# EAGLE library part PCI9056 (library plxtech)
PCI 9056 PCI Bus Mastering I/O Accelerator between a 32-bit, 66 MHz PCI Bus and 32-bit, 66 MHz processor Local Bus Data Book Version 0.91b February 2002 Website: http://www.plxtech.com
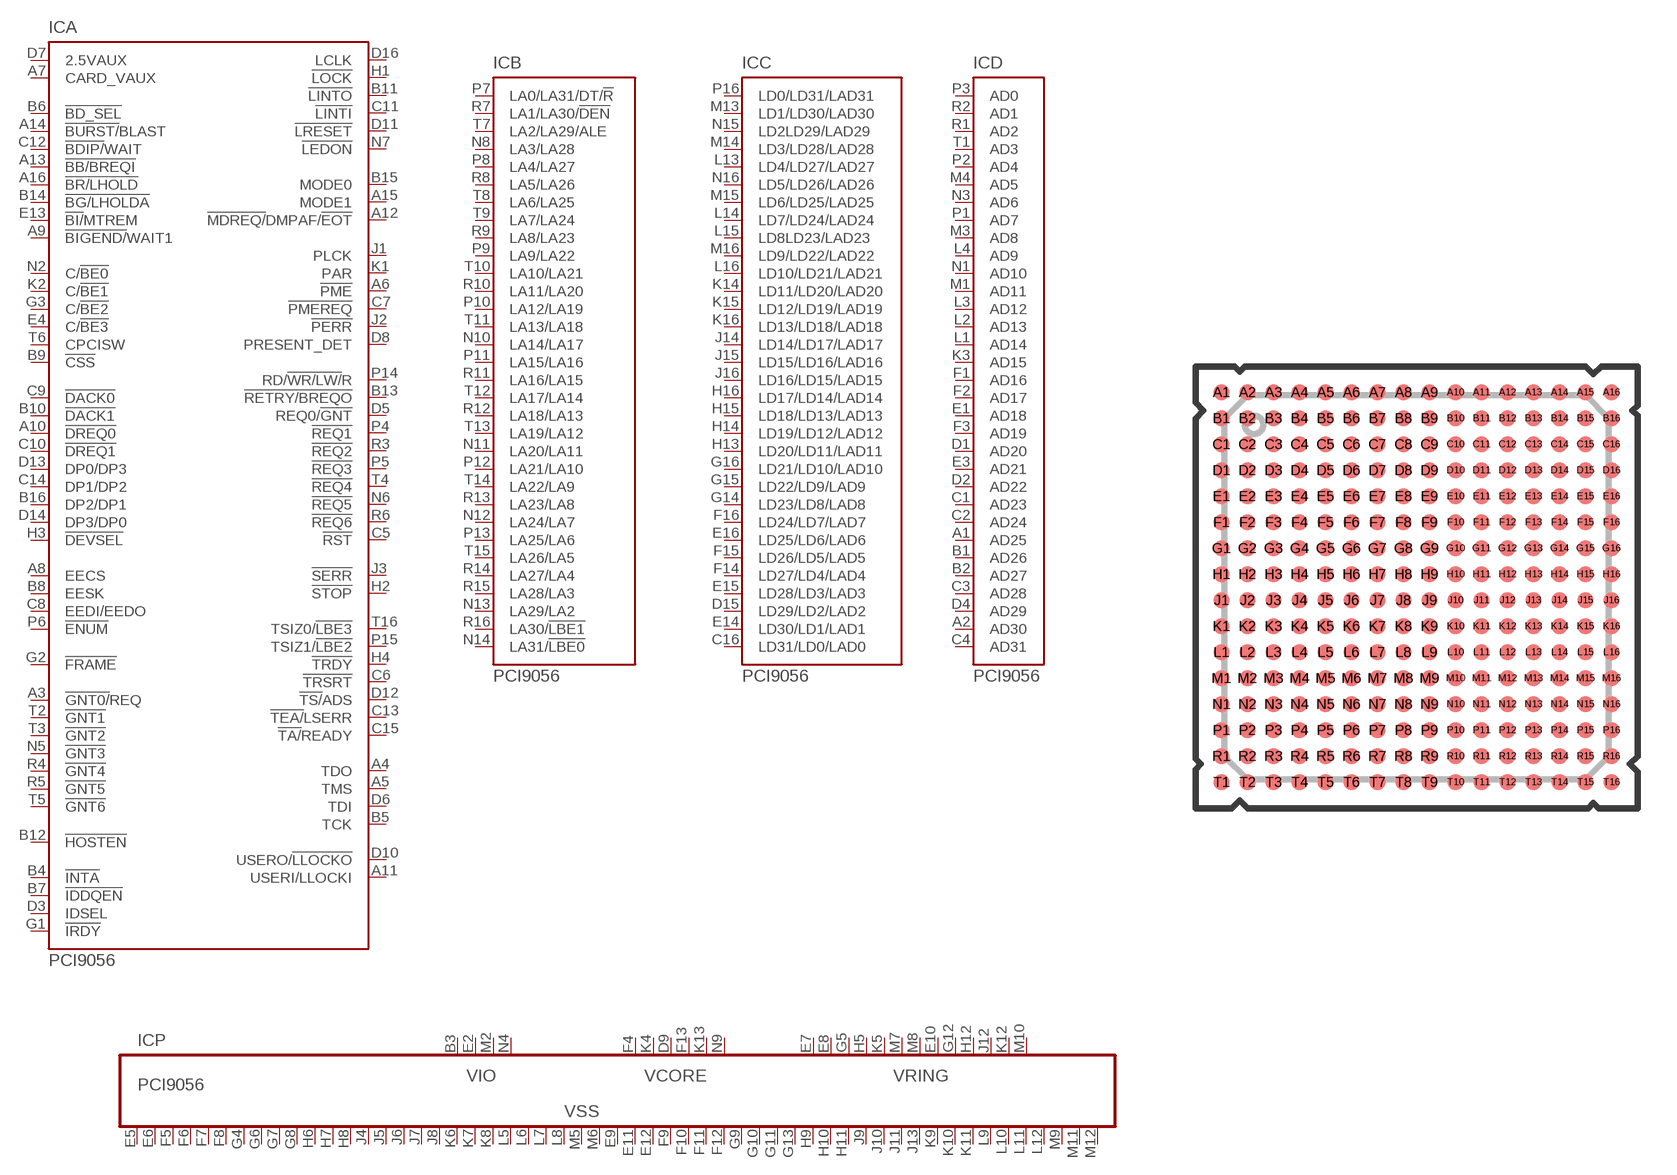
[diagram p0: symbol with the pads of PBGA256; footprint PBGA256]

Designator prefix IC; gates A=PCI9056 B=PCI-LA C=PCI-LD D=PCI-AD P=PWR-PCI9056

## PCI9056 (OC_FARNELL: 1623124; OC_NEWARK: unknown)  [PBGA256]
A1  D:AD25
A2  D:AD30
A3  A:!GNT0/!REQ  out
A4  A:TDO
A5  A:TMS  in
A6  A:!PME
A7  A:CARD_VAUX  pwr
A8  A:EECS  out
A9  A:!BIGEND/!WAIT1
A10  A:!DREQ0  in
A11  A:USERI/LLOCKI  in
A12  A:!MDREQ/!DMPAF/!EOT
A13  A:!BB/BREQI  in
A14  A:!BURST/!BLAST
A15  A:MODE1  in
A16  A:!BR/LHOLD  out
B1  D:AD26
B2  D:AD27
B3  P:VIO  pwr
B4  A:!INTA
B5  A:TCK  in
B6  A:!BD_SEL  in
B7  A:!IDDQEN  in
B8  A:EESK  out
B9  A:!CSS  in
B10  A:!DACK1  out
B11  A:!LINTO  out
B12  A:!HOSTEN  in
B13  A:!RETRY/BREQO  out
B14  A:!BG/LHOLDA  in
B15  A:MODE0  in
B16  A:DP2/DP1
C1  D:AD23
C2  D:AD24
C3  D:AD28
C4  D:AD31
C5  A:!RST
C6  A:!TRSRT  in
C7  A:!PMEREQ  in
C8  A:EEDI/EEDO
C9  A:!DACK0  out
C10  A:!DREQ1  in
C11  A:!LINTI  in
C12  A:!BDIP/!WAIT
C13  A:!TEA/!LSERR
C14  A:DP1/DP2
C15  A:!TA/!READY
C16  C:LD31/LD0/LAD0  in
D1  D:AD20
D2  D:AD22
D3  A:IDSEL  in
D4  D:AD29
D5  A:REQ0/!GNT  in
D6  A:TDI  in
D7  A:2.5VAUX  pwr
D8  A:PRESENT_DET  in
D9  P:VCORE  pwr
D10  A:USERO/!LLOCKO
D11  A:!LRESET
D12  A:!TS/!ADS
D13  A:DP0/DP3
D14  A:DP3/DP0
D15  C:LD29/LD2/LAD2  in
D16  A:LCLK  in
E1  D:AD18
E2  P:VIO  pwr
E3  D:AD21
E4  A:C/!BE3
E5  P:VSS  pwr
E6  P:VSS  pwr
E7  P:VRING  pwr
E8  P:VRING  pwr
E9  P:VSS  pwr
E10  P:VRING  pwr
E11  P:VSS  pwr
E12  P:VSS  pwr
E13  A:!BI/!MTREM  in
E14  C:LD30/LD1/LAD1  in
E15  C:LD28/LD3/LAD3  in
E16  C:LD25/LD6/LAD6  in
F1  D:AD16
F2  D:AD17
F3  D:AD19
F4  P:VCORE  pwr
F5  P:VSS  pwr
F6  P:VSS  pwr
F7  P:VSS  pwr
F8  P:VSS  pwr
F9  P:VSS  pwr
F10  P:VSS  pwr
F11  P:VSS  pwr
F12  P:VSS  pwr
F13  P:VCORE  pwr
F14  C:LD27/LD4/LAD4  in
F15  C:LD26/LD5/LAD5  in
F16  C:LD24/LD7/LAD7  in
G1  A:!IRDY
G2  A:!FRAME
G3  A:C/!BE2
G4  P:VSS  pwr
G5  P:VRING  pwr
G6  P:VSS  pwr
G7  P:VSS  pwr
G8  P:VSS  pwr
G9  P:VSS  pwr
G10  P:VSS  pwr
G11  P:VSS  pwr
G12  P:VRING  pwr
G13  P:VSS  pwr
G14  C:LD23/LD8/LAD8  in
G15  C:LD22/LD9/LAD9  in
G16  C:LD21/LD10/LAD10  in
H1  A:!LOCK
H2  A:!STOP
H3  A:!DEVSEL
H4  A:!TRDY
H5  P:VRING  pwr
H6  P:VSS  pwr
H7  P:VSS  pwr
H8  P:VSS  pwr
H9  P:VSS  pwr
H10  P:VSS  pwr
H11  P:VSS  pwr
H12  P:VRING  pwr
H13  C:LD20/LD11/LAD11  in
H14  C:LD19/LD12/LAD12  in
H15  C:LD18/LD13/LAD13  in
H16  C:LD17/LD14/LAD14  in
J1  A:PLCK  in
J2  A:!PERR
J3  A:!SERR
J4  P:VSS  pwr
J5  P:VSS  pwr
J6  P:VSS  pwr
J7  P:VSS  pwr
J8  P:VSS  pwr
J9  P:VSS  pwr
J10  P:VSS  pwr
J11  P:VSS  pwr
J12  P:VRING  pwr
J13  P:VSS  pwr
J14  C:LD14/LD17/LAD17  in
J15  C:LD15/LD16/LAD16  in
J16  C:LD16/LD15/LAD15  in
K1  A:PAR
K2  A:C/!BE1
K3  D:AD15
K4  P:VCORE  pwr
K5  P:VRING  pwr
K6  P:VSS  pwr
K7  P:VSS  pwr
K8  P:VSS  pwr
K9  P:VSS  pwr
K10  P:VSS  pwr
K11  P:VSS  pwr
K12  P:VRING  pwr
K13  P:VCORE  pwr
K14  C:LD11/LD20/LAD20  in
K15  C:LD12/LD19/LAD19  in
K16  C:LD13/LD18/LAD18  in
L1  D:AD14
L2  D:AD13
L3  D:AD12
L4  D:AD9
L5  P:VSS  pwr
L6  P:VSS  pwr
L7  P:VSS  pwr
L8  P:VSS  pwr
L9  P:VSS  pwr
L10  P:VSS  pwr
L11  P:VSS  pwr
L12  P:VSS  pwr
L13  C:LD4/LD27/LAD27  in
L14  C:LD7/LD24/LAD24  in
L15  C:LD8LD23/LAD23  in
L16  C:LD10/LD21/LAD21  in
M1  D:AD11
M2  P:VIO  pwr
M3  D:AD8
M4  D:AD5
M5  P:VSS  pwr
M6  P:VSS  pwr
M7  P:VRING  pwr
M8  P:VRING  pwr
M9  P:VSS  pwr
M10  P:VRING  pwr
M11  P:VSS  pwr
M12  P:VSS  pwr
M13  C:LD1/LD30/LAD30  in
M14  C:LD3/LD28/LAD28  in
M15  C:LD6/LD25/LAD25  in
M16  C:LD9/LD22/LAD22  in
N1  D:AD10
N2  A:C/!BE0
N3  D:AD6
N4  P:VIO  pwr
N5  A:!GNT3  out
N6  A:!REQ5  in
N7  A:!LEDON  out
N8  B:LA3/LA28  in
N9  P:VCORE  pwr
N10  B:LA14/LA17  in
N11  B:LA20/LA11  in
N12  B:LA24/LA7  in
N13  B:LA29/LA2  in
N14  B:LA31/!LBE0  in
N15  C:LD2LD29/LAD29  in
N16  C:LD5/LD26/LAD26  in
P1  D:AD7
P2  D:AD4
P3  D:AD0
P4  A:!REQ1  in
P5  A:!REQ3  in
P6  A:!ENUM  out
P7  B:LA0/LA31/DT/!R  in
P8  B:LA4/LA27  in
P9  B:LA9/LA22  in
P10  B:LA12/LA19  in
P11  B:LA15/LA16  in
P12  B:LA21/LA10  in
P13  B:LA25/LA6  in
P14  A:RD/!WR/LW/!R
P15  A:TSIZ1/!LBE2
P16  C:LD0/LD31/LAD31  in
R1  D:AD2
R2  D:AD1
R3  A:!REQ2  in
R4  A:!GNT4  out
R5  A:!GNT5  out
R6  A:!REQ6  in
R7  B:LA1/LA30/!DEN  in
R8  B:LA5/LA26  in
R9  B:LA8/LA23  in
R10  B:LA11/LA20  in
R11  B:LA16/LA15  in
R12  B:LA18/LA13  in
R13  B:LA23/LA8  in
R14  B:LA27/LA4  in
R15  B:LA28/LA3  in
R16  B:LA30/!LBE1  in
T1  D:AD3
T2  A:!GNT1  out
T3  A:!GNT2  out
T4  A:!REQ4  in
T5  A:!GNT6  out
T6  A:CPCISW  in
T7  B:LA2/LA29/ALE  in
T8  B:LA6/LA25  in
T9  B:LA7/LA24  in
T10  B:LA10/LA21  in
T11  B:LA13/LA18  in
T12  B:LA17/LA14  in
T13  B:LA19/LA12  in
T14  B:LA22/LA9  in
T15  B:LA26/LA5  in
T16  A:TSIZ0/!LBE3

## Footprint PBGA256 (pad centres in mm)
Ball Grid Array PBGA 256
smd 0.6 x 0.6: A1 -7.5,7.5; A2 -6.5,7.5; A3 -5.5,7.5; A4 -4.5,7.5; A5 -3.5,7.5; A6 -2.5,7.5; A7 -1.5,7.5; A8 -0.5,7.5; A9 0.5,7.5; A10 1.5,7.5; A11 2.5,7.5; A12 3.5,7.5; A13 4.5,7.5; A14 5.5,7.5; A15 6.5,7.5; A16 7.5,7.5; B1 -7.5,6.5; B2 -6.5,6.5; B3 -5.5,6.5; B4 -4.5,6.5; B5 -3.5,6.5; B6 -2.5,6.5; B7 -1.5,6.5; B8 -0.5,6.5; B9 0.5,6.5; B10 1.5,6.5; B11 2.5,6.5; B12 3.5,6.5; B13 4.5,6.5; B14 5.5,6.5; B15 6.5,6.5; B16 7.5,6.5; C1 -7.5,5.5; C2 -6.5,5.5; C3 -5.5,5.5; C4 -4.5,5.5; C5 -3.5,5.5; C6 -2.5,5.5; C7 -1.5,5.5; C8 -0.5,5.5; C9 0.5,5.5; C10 1.5,5.5; C11 2.5,5.5; C12 3.5,5.5; C13 4.5,5.5; C14 5.5,5.5; C15 6.5,5.5; C16 7.5,5.5; D1 -7.5,4.5; D2 -6.5,4.5; D3 -5.5,4.5; D4 -4.5,4.5; D5 -3.5,4.5; D6 -2.5,4.5; D7 -1.5,4.5; D8 -0.5,4.5; D9 0.5,4.5; D10 1.5,4.5; D11 2.5,4.5; D12 3.5,4.5; D13 4.5,4.5; D14 5.5,4.5; D15 6.5,4.5; D16 7.5,4.5; E1 -7.5,3.5; E2 -6.5,3.5; E3 -5.5,3.5; E4 -4.5,3.5; E5 -3.5,3.5; E6 -2.5,3.5; E7 -1.5,3.5; E8 -0.5,3.5; E9 0.5,3.5; E10 1.5,3.5; E11 2.5,3.5; E12 3.5,3.5; E13 4.5,3.5; E14 5.5,3.5; E15 6.5,3.5; E16 7.5,3.5; F1 -7.5,2.5; F2 -6.5,2.5; F3 -5.5,2.5; F4 -4.5,2.5; F5 -3.5,2.5; F6 -2.5,2.5; F7 -1.5,2.5; F8 -0.5,2.5; F9 0.5,2.5; F10 1.5,2.5; F11 2.5,2.5; F12 3.5,2.5; F13 4.5,2.5; F14 5.5,2.5; F15 6.5,2.5; F16 7.5,2.5; G1 -7.5,1.5; G2 -6.5,1.5; G3 -5.5,1.5; G4 -4.5,1.5; G5 -3.5,1.5; G6 -2.5,1.5; G7 -1.5,1.5; G8 -0.5,1.5; G9 0.5,1.5; G10 1.5,1.5; G11 2.5,1.5; G12 3.5,1.5; G13 4.5,1.5; G14 5.5,1.5; G15 6.5,1.5; G16 7.5,1.5; H1 -7.5,0.5; H2 -6.5,0.5; H3 -5.5,0.5; H4 -4.5,0.5; H5 -3.5,0.5; H6 -2.5,0.5; H7 -1.5,0.5; H8 -0.5,0.5; H9 0.5,0.5; H10 1.5,0.5; H11 2.5,0.5; H12 3.5,0.5; H13 4.5,0.5; H14 5.5,0.5; H15 6.5,0.5; H16 7.5,0.5; J1 -7.5,-0.5; J2 -6.5,-0.5; J3 -5.5,-0.5; J4 -4.5,-0.5; J5 -3.5,-0.5; J6 -2.5,-0.5; J7 -1.5,-0.5; J8 -0.5,-0.5; J9 0.5,-0.5; J10 1.5,-0.5; J11 2.5,-0.5; J12 3.5,-0.5; J13 4.5,-0.5; J14 5.5,-0.5; J15 6.5,-0.5; J16 7.5,-0.5; K1 -7.5,-1.5; K2 -6.5,-1.5; K3 -5.5,-1.5; K4 -4.5,-1.5; K5 -3.5,-1.5; K6 -2.5,-1.5; K7 -1.5,-1.5; K8 -0.5,-1.5; K9 0.5,-1.5; K10 1.5,-1.5; K11 2.5,-1.5; K12 3.5,-1.5; K13 4.5,-1.5; K14 5.5,-1.5; K15 6.5,-1.5; K16 7.5,-1.5; L1 -7.5,-2.5; L2 -6.5,-2.5; L3 -5.5,-2.5; L4 -4.5,-2.5; L5 -3.5,-2.5; L6 -2.5,-2.5; L7 -1.5,-2.5; L8 -0.5,-2.5; L9 0.5,-2.5; L10 1.5,-2.5; L11 2.5,-2.5; L12 3.5,-2.5; L13 4.5,-2.5; L14 5.5,-2.5; L15 6.5,-2.5; L16 7.5,-2.5; M1 -7.5,-3.5; M2 -6.5,-3.5; M3 -5.5,-3.5; M4 -4.5,-3.5; M5 -3.5,-3.5; M6 -2.5,-3.5; M7 -1.5,-3.5; M8 -0.5,-3.5; M9 0.5,-3.5; M10 1.5,-3.5; M11 2.5,-3.5; M12 3.5,-3.5; M13 4.5,-3.5; M14 5.5,-3.5; M15 6.5,-3.5; M16 7.5,-3.5; N1 -7.5,-4.5; N2 -6.5,-4.5; N3 -5.5,-4.5; N4 -4.5,-4.5; N5 -3.5,-4.5; N6 -2.5,-4.5; N7 -1.5,-4.5; N8 -0.5,-4.5; N9 0.5,-4.5; N10 1.5,-4.5; N11 2.5,-4.5; N12 3.5,-4.5; N13 4.5,-4.5; N14 5.5,-4.5; N15 6.5,-4.5; N16 7.5,-4.5; P1 -7.5,-5.5; P2 -6.5,-5.5; P3 -5.5,-5.5; P4 -4.5,-5.5; P5 -3.5,-5.5; P6 -2.5,-5.5; P7 -1.5,-5.5; P8 -0.5,-5.5; P9 0.5,-5.5; P10 1.5,-5.5; P11 2.5,-5.5; P12 3.5,-5.5; P13 4.5,-5.5; P14 5.5,-5.5; P15 6.5,-5.5; P16 7.5,-5.5; R1 -7.5,-6.5; R2 -6.5,-6.5; R3 -5.5,-6.5; R4 -4.5,-6.5; R5 -3.5,-6.5; R6 -2.5,-6.5; R7 -1.5,-6.5; R8 -0.5,-6.5; R9 0.5,-6.5; R10 1.5,-6.5; R11 2.5,-6.5; R12 3.5,-6.5; R13 4.5,-6.5; R14 5.5,-6.5; R15 6.5,-6.5; R16 7.5,-6.5; T1 -7.5,-7.5; T2 -6.5,-7.5; T3 -5.5,-7.5; T4 -4.5,-7.5; T5 -3.5,-7.5; T6 -2.5,-7.5; T7 -1.5,-7.5; T8 -0.5,-7.5; T9 0.5,-7.5; T10 1.5,-7.5; T11 2.5,-7.5; T12 3.5,-7.5; T13 4.5,-7.5; T14 5.5,-7.5; T15 6.5,-7.5; T16 7.5,-7.5